# Altium schematic symbol library I2C_Shield.SchLib: 16 symbols
Pins are listed as number, name and electrical type; pins without a type are passive.

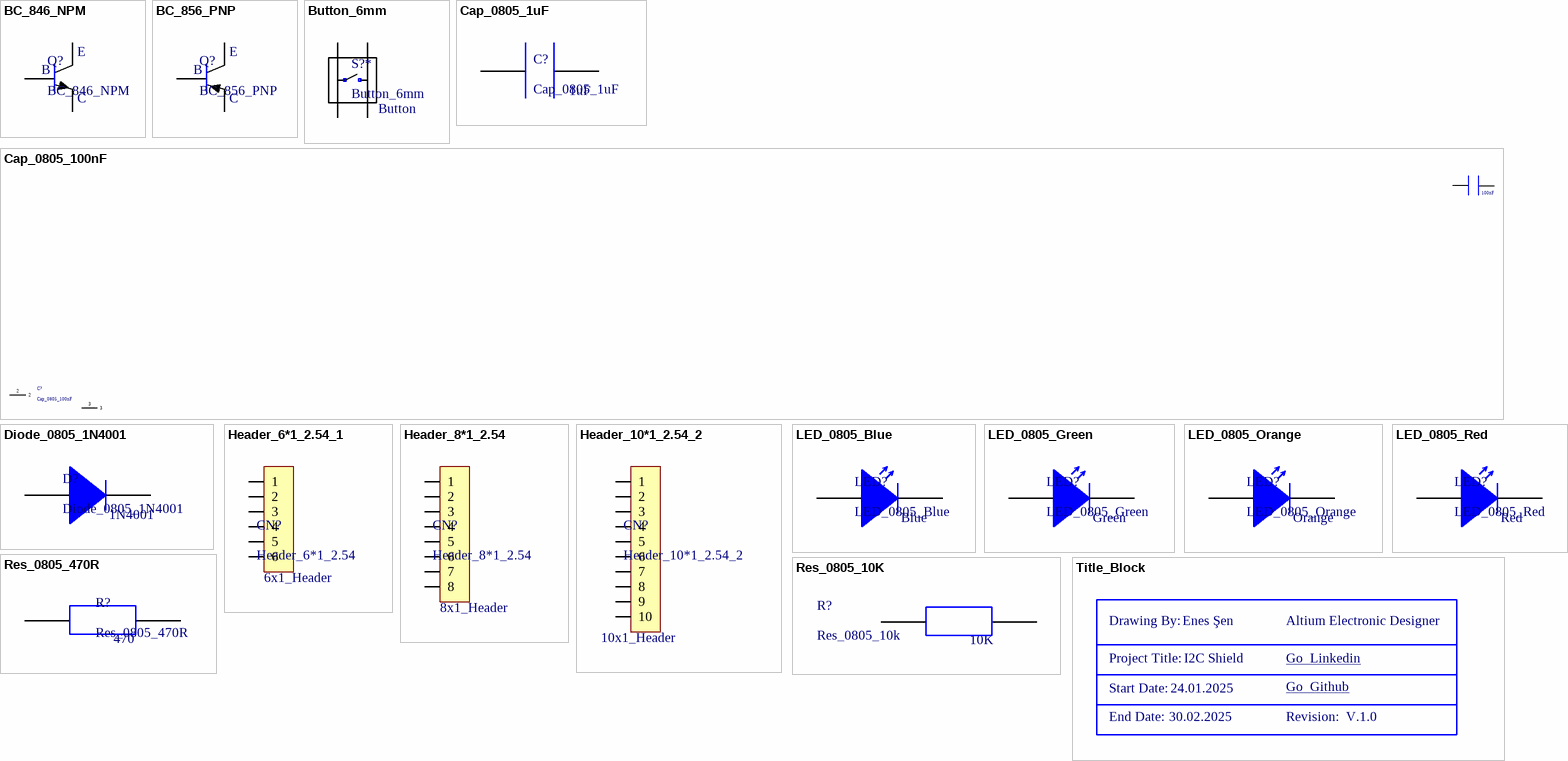
[diagram p0: symbols BC_846_NPM to Title_Block]

## BC_846_NPM
designator Q?
100mA 65V NPN SOT23 GEN. SMT; Manifacture: https://ozdisan.com/power-semiconductors/transistors/discrete-transistors/BC846B-HT/417239; Voltage Rating: 65V; Current: 100mA; Packing Size: SOT23
pins: 0, 1, 2
text: E; B; C

## BC_856_PNP
designator Q?
100mA 65V NPN SOT23 GEN. SMT; Manifacture: https://ozdisan.com/p/discrete-transistors-861?SearchText=BC846B+215; Voltage Rating: 65V; Current: 100mA; Packing Size: SOT23
pins: 0, 1, 2
text: E; B; C

## Button_6mm
designator S?*
SWITCH TACT 6x6MM; Voltage Rating: 12V; Current: 50mA; Manifacture: https://cdn.ozdisan.com/ETicaret_Dosya/484770_592053.pdf; Package Size: 6mm*6mm
pins: 0, 1, 2, 3
text: Button

## Cap_0805_1uF
designator C?
0805 1uF 16VDC ±10%; Dielectric: X7R; Voltage Rating: 16V; Tolerance: %10; Package Size: 0805; Manifacture: https://tr.farnell.com/tdk/c2012x7r1h105k125ab/cap-1-f-50v-10-x7r-0805/dp/2522081
pins: 0, 1
text: 1uF

## Cap_0805_100nF
designator C?
0805 100nF 16VDC ±10%; Tolerance: %10; Voltage Rating: 16V; Dielectric: X7R; Manifacture: https://tr.farnell.com/samsung-electro-mechanics/cl21b105kbfnnne/cap-1uf-50v-mlcc-0805/dp/3010154; Package Size: 0805
pins: 0, 1, 2, 3
text: 100nF

## Diode_0805_1N4001
designator D?
Single 1A 50V THT DO41; Tolerance: 10%; Manifacture: https://ozdisan.com/power-semiconductors/diodes-diode-modules-and-rectifiers/general-purpose-diodes/1N4001-DC/704532; Voltage Rate: 50V; Current: 1A; Package Size: DO41
pins: 1, 2
text: 1N4001

## Header_6*1_2.54_1
designator CN?, comment Header_6*1_2.54
pins: 1, 2, 3, 4, 5, 6
text: 6x1_Header

## Header_8*1_2.54
designator CN?
pins: 1, 2, 3, 4, 5, 6, 7, 8
text: 8x1_Header

## Header_10*1_2.54_2
designator CN?
pins: 1, 2, 3, 4, 5, 6, 7, 8, 9, 10
text: 10x1_Header

## LED_0805_Blue
designator LED?
LED SMD 0805 Blue; Tolerance: 10%; Voltage Rate: 2.6V; Current: 30mA; Manifacture: https://ozdisan.com/leds-and-lighting-solutions/led-components/led-signal-color/FYLS-0805PGC/496604; Package Size: 0805
pins: 1, 2
text: Blue

## LED_0805_Green
designator LED?
LED SMD 0805 GREEN; Tolerance: 10%; Voltage Rate: 2.6V; Current: 30mA; Manifacture: https://ozdisan.com/leds-and-lighting-solutions/led-components/led-signal-color/FYLS-0805PGC/496604; Package Size: 0805
pins: 1, 2
text: Green

## LED_0805_Orange
designator LED?
LED SMD 0805 Orange; Tolerance: 10%; Voltage Rate: 2.6V; Current: 30mA; Manifacture: https://ozdisan.com/leds-and-lighting-solutions/led-components/led-signal-color/FYLS-0805PGC/496604; Package Size: 0805
pins: 1, 2
text: Orange

## LED_0805_Red
designator LED?
LED SMD 0805 Red; Tolerance: 10%; Voltage Rate: 2.6V; Current: 30mA; Manifacture: https://ozdisan.com/leds-and-lighting-solutions/led-components/led-signal-color/FYLS-0805PGC/496604; Package Size: 0805
pins: 1, 2
text: Red

## Res_0805_10K
designator R?, comment Res_0805_10k
0805 10K Ohms 5% 1/8W 100PPM SMT; Tolerance: %5; Voltage Rated: 150V; Manufacturer: https://ozdisan.com/passive-components/resistors/smt-smd-and-chip-resistors/RC0805JR-0710KL/515420; Package Size: 0805
pins: 0, 1
text: 10K

## Res_0805_470R
designator R?
0805 470 Ohms 5%; Manifacuture: 0805 470 Ohms 5% 1/8W; Tolerance: %5; Voltage Rating: 150V; Package Size: 0805
pins: 0, 1
text: 470

## Title_Block
designator *  (value not drawn)  (graphical)
text: Drawing By:; Enes Şen; Altium Electronic Designer; Project Title:; I2C Shield; Go  Linkedin; Start Date:; 24.01.2025; Go  Github; End Date:; 30.02.2025; Revision:; V.1.0